# Altium schematic symbol library Schlib1.SchLib: 1 symbol
Pins are listed as number, name and electrical type; pins without a type are passive.

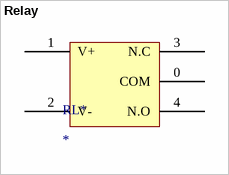
[diagram p0: symbol Relay]

## Relay
designator RL*
Relay 5v 5 pin
footprint Relay
pins: 0 COM, 1 V+, 2 V-, 3 N.C, 4 N.O